# Altium footprint library Board.PcbLib: 21 footprints (part 2 of 2)
Each footprint in its own frame and in the unit in brackets; x right, y up, seen from the top. Pads: shape width x height; smd on the part's side, far side on the other; paste and mask are expansions set on the pad; w line width, h text height; cw(c..) or ccw(c..) is an arc to the next point about the centre after c.
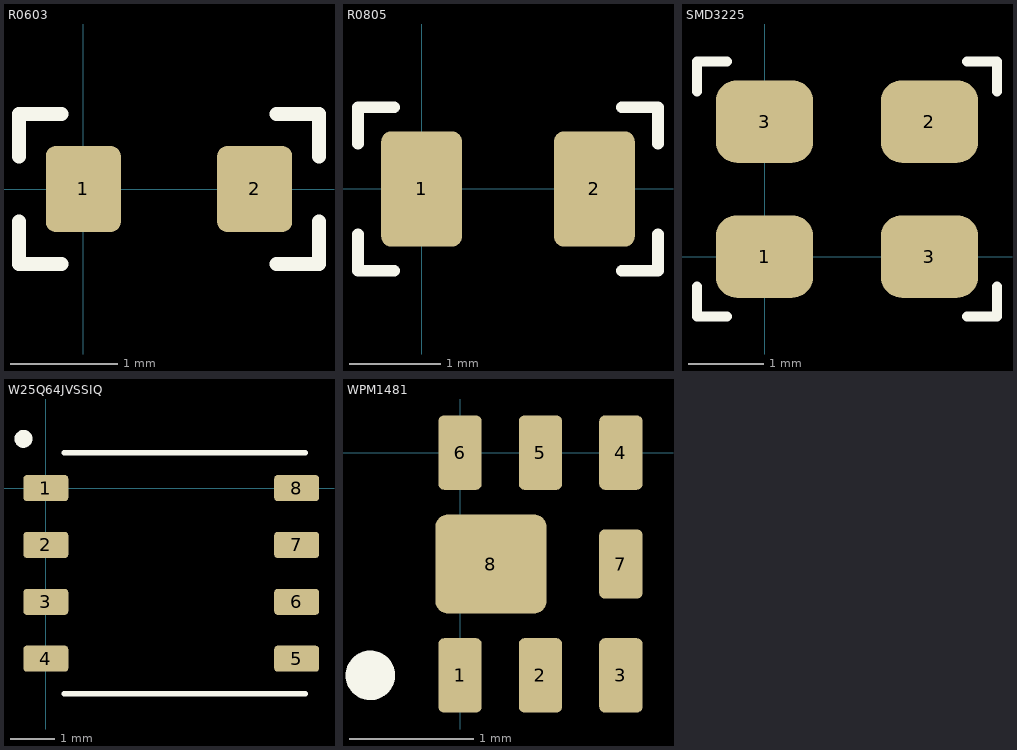
[diagram p1: the footprints below, top view; thin cyan lines are the x and y axes]

## R0603 [mm]
pads (2):
  rrect25% 0.7x0.8 smd: 1(0,0) 2(1.6,0)
Top Overlay:
  lines w0.127: -0.6,-0.3 -0.6,-0.7 -0.2,-0.7 ; -0.6,0.3 -0.6,0.7 -0.2,0.7 ; 1.8,-0.7 2.2,-0.7 2.2,-0.3 ; 1.8,0.7 2.2,0.7 2.2,0.3
3D body "R 0603.STEP": height 0.4, standoff 0, extent 0,-0.4 1.6,0.4

## R0805 [mil]
pads (2):
  rrect25% 35x50 smd: 1(0,0) 2(74.8,0)
Top Overlay:
  lines w5: -27.56,-19.68 -27.56,-35.43 -11.81,-35.43 ; -27.56,19.68 -27.56,35.43 -11.81,35.43 ; 86.61,-35.43 102.36,-35.43 102.36,-19.68 ; 86.61,35.43 102.36,35.43 102.36,19.68
3D body "R 0805-HP.STEP": height 19.72, standoff -0.24, extent -1.96,-24.6 76.78,24.61

## SMD3225 [mm]
pads (4):
  rrect50% 1.3x1.1 smd: 1(0,0) 2(2.2,1.8) 3(0,1.8) 3(2.2,0)
Top Overlay:
  lines w0.127: -0.9,-0.4 -0.9,-0.8 -0.5,-0.8 ; -0.9,2.2 -0.9,2.6 -0.5,2.6 ; 2.7,-0.8 3.1,-0.8 3.1,-0.4 ; 2.7,2.6 3.1,2.6 3.1,2.2
3D body "OSC 3225-4.STEP": height 0.7, standoff -0.02, extent -0.5,-0.35 2.7,2.15

## W25Q64JVSSIQ [mm]
pads (8):
  rrect25% 1x0.58 smd: 1(0,0) 2(0,-1.27) 3(0,-2.54) 4(0,-3.81) 5(5.6,-3.81) 6(5.6,-2.54) 7(5.6,-1.27) 8(5.6,0)
Top Overlay:
  circle w0.2: c-0.5,1.1 r0.1
  lines w0.127: 0.41,-4.59 5.79,-4.59 ; 0.41,0.79 5.79,0.79
3D body: height 0.8, standoff 0, extent -0.2,-4.4 5.8,0.61

## WPM1481 [mm]
pads (8):
  rrect25% 0.35x0.6 smd: 1(0,-1.8) 2(0.65,-1.8) 3(1.3,-1.8) 4(1.3,0) 5(0.65,0) 6(0,0)
  rrect25% 0.35x0.56 smd: 7(1.3,-0.9)
  rrect25% 0.9x0.8 smd: 8(0.25,-0.9)
Top Overlay:
  circle w0.2: c-0.725,-1.8 r0.1
3D body: height 0.6, standoff 0, extent -0.375,-1.825 1.725,0